# Altium footprint library DIP6-300.PcbLib: 1 footprints
Each footprint in its own frame and in the unit in brackets; x right, y up, seen from the top. Pads: shape width x height; smd on the part's side, far side on the other; paste and mask are expansions set on the pad; w line width, h text height; cw(c..) or ccw(c..) is an arc to the next point about the centre after c.
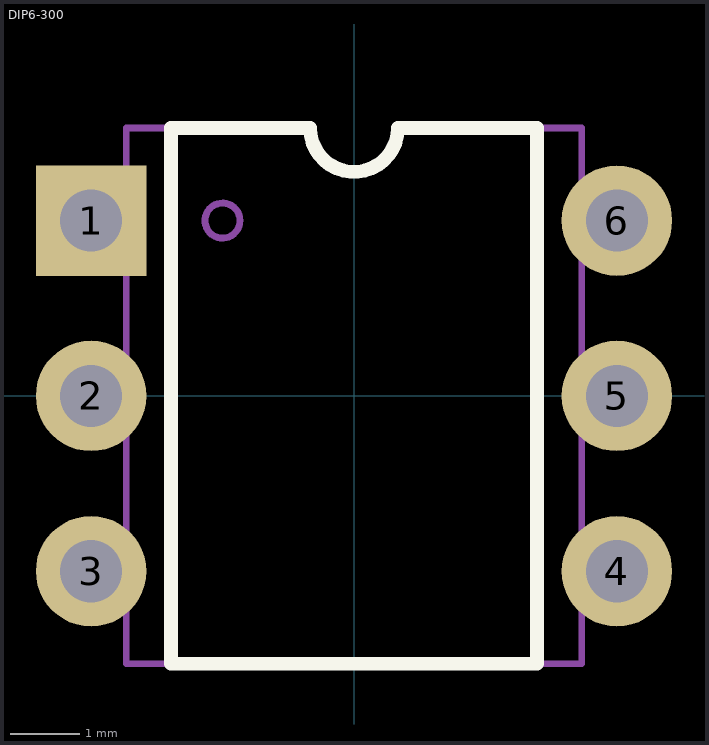
[diagram p0: the footprint, top view; thin cyan lines are the x and y axes]

## DIP6-300 [mm] "DIP 6 Leads; Row Spacing 7.62 mm; Pitch 2.54 mm"
height 5.08
pads (6):
  rect 1.6x1.6 hole 0.9: 1(-3.81,2.54)
  round 1.6 hole 0.9: 2(-3.81,0) 3(-3.81,-2.54) 4(3.81,-2.54) 5(3.81,0) 6(3.81,2.54)
Top Overlay:
  lines w0.2: -0.635,3.88 ccw(c0,3.88) 0.635,3.88 ; -0.635,3.88 ccw(c0,3.88) 0.635,3.88 ; -0.635,3.88 -2.65,3.88 -2.65,-3.88 2.65,-3.88 2.65,3.88 0.635,3.88
Mechanical 14:
  circle w0.1: c-1.905,2.54 r0.254
  lines w0.1: -3.3,-3.88 -3.3,3.88 -0.635,3.88 ccw(c0,3.88) 0.635,3.88 3.3,3.88 3.3,-3.88 -3.3,-3.88
3D body "DIP6-300.stp": height 5.33, standoff -3.3, extent -3.935,-3.81 3.935,3.81